# Altium schematic symbol library NFM18CC223R1C3.SchLib: 1 symbol
Pins are listed as number, name and electrical type; pins without a type are passive.

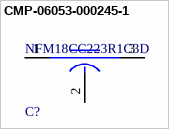
[diagram p0: symbol CMP-06053-000245-1]

## CMP-06053-000245-1
designator C?, comment NFM18CC223R1C3D
Large Current 3 Terminals Low ESL Chip Multilayer Ceramic Capacitors for General Purpose, 0603, 22000pF, 20%, 16V; Frequency: 1kHz; Current: 1A; Insulation Resistance: 1GR; Capacitance: 22nF; DC Resistance (DCR): 50mR; Max Voltage Rating (DC): 16V; Packaging: Tape and Reel; Package Quantity: 1; Voltage Rating: 16V; Min Operating Temperature: -55°C; Voltage Rating (DC): 16V; Width: 0.8mm; Max Current Rating: 1A; Max Operating Temperature: 125°C; Lead Free: Lead Free; Case Code (Metric): 1608; Tolerance: 20%; Mount: Surface Mount; REACH SVHC: No SVHC; Termination: Flat; Voltage: 16V; Height: 0.6mm; Case/Package: 0603; Length: 1.6mm; Radiation Hardening: No; Depth: 0.8mm; Current Rating: 1A; Case Code (Imperial): 0603
footprint FP-NFM18-0_1-e0_15_0_35-MFG
pins: 1 Input, 2 GND, 3 Output